# EAGLE library part 418317170908 (library EAGLE-TACT_SWITCHES-rev17c)
WS-PT 2.54 mm piano type compact THT Dip Switch with flat actuator, 8 Pole
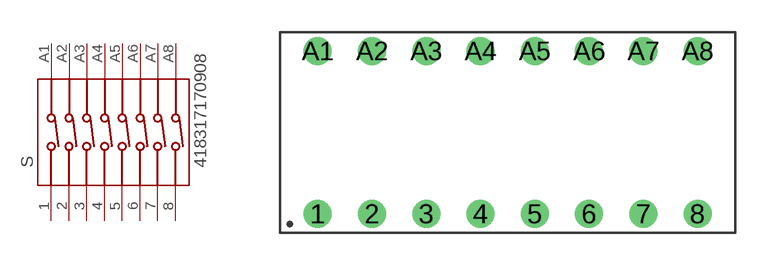
[diagram p67: symbol with the pads of 418317170908; footprint 418317170908]

Designator prefix S

## 418317170908  [418317170908]
1  1  pas
2  2  pas
3  3  pas
4  4  pas
5  5  pas
6  6  pas
7  7  pas
8  8  pas
A1  A1  pas
A2  A2  pas
A3  A3  pas
A4  A4  pas
A5  A5  pas
A6  A6  pas
A7  A7  pas
A8  A8  pas

## Footprint 418317170908 (pad centres in mm)
WS-PT 2.54 mm piano type compact THT Dip Switch with flat actuator, 8 Pole
drill 0.8: 1 -8.89,-3.81; 2 -6.35,-3.81; 3 -3.81,-3.81; 4 -1.27,-3.81; 5 1.27,-3.81; 6 3.81,-3.81; 7 6.35,-3.81; 8 8.89,-3.81; A1 -8.89,3.81; A2 -6.35,3.81; A3 -3.81,3.81; A4 -1.27,3.81; A5 1.27,3.81; A6 3.81,3.81; A7 6.35,3.81; A8 8.89,3.81